# Altium schematic symbol library ISSI SRAM ASynchronous SRAM High Speed Low Power.SchLib: 413 symbols (part 19 of 21)
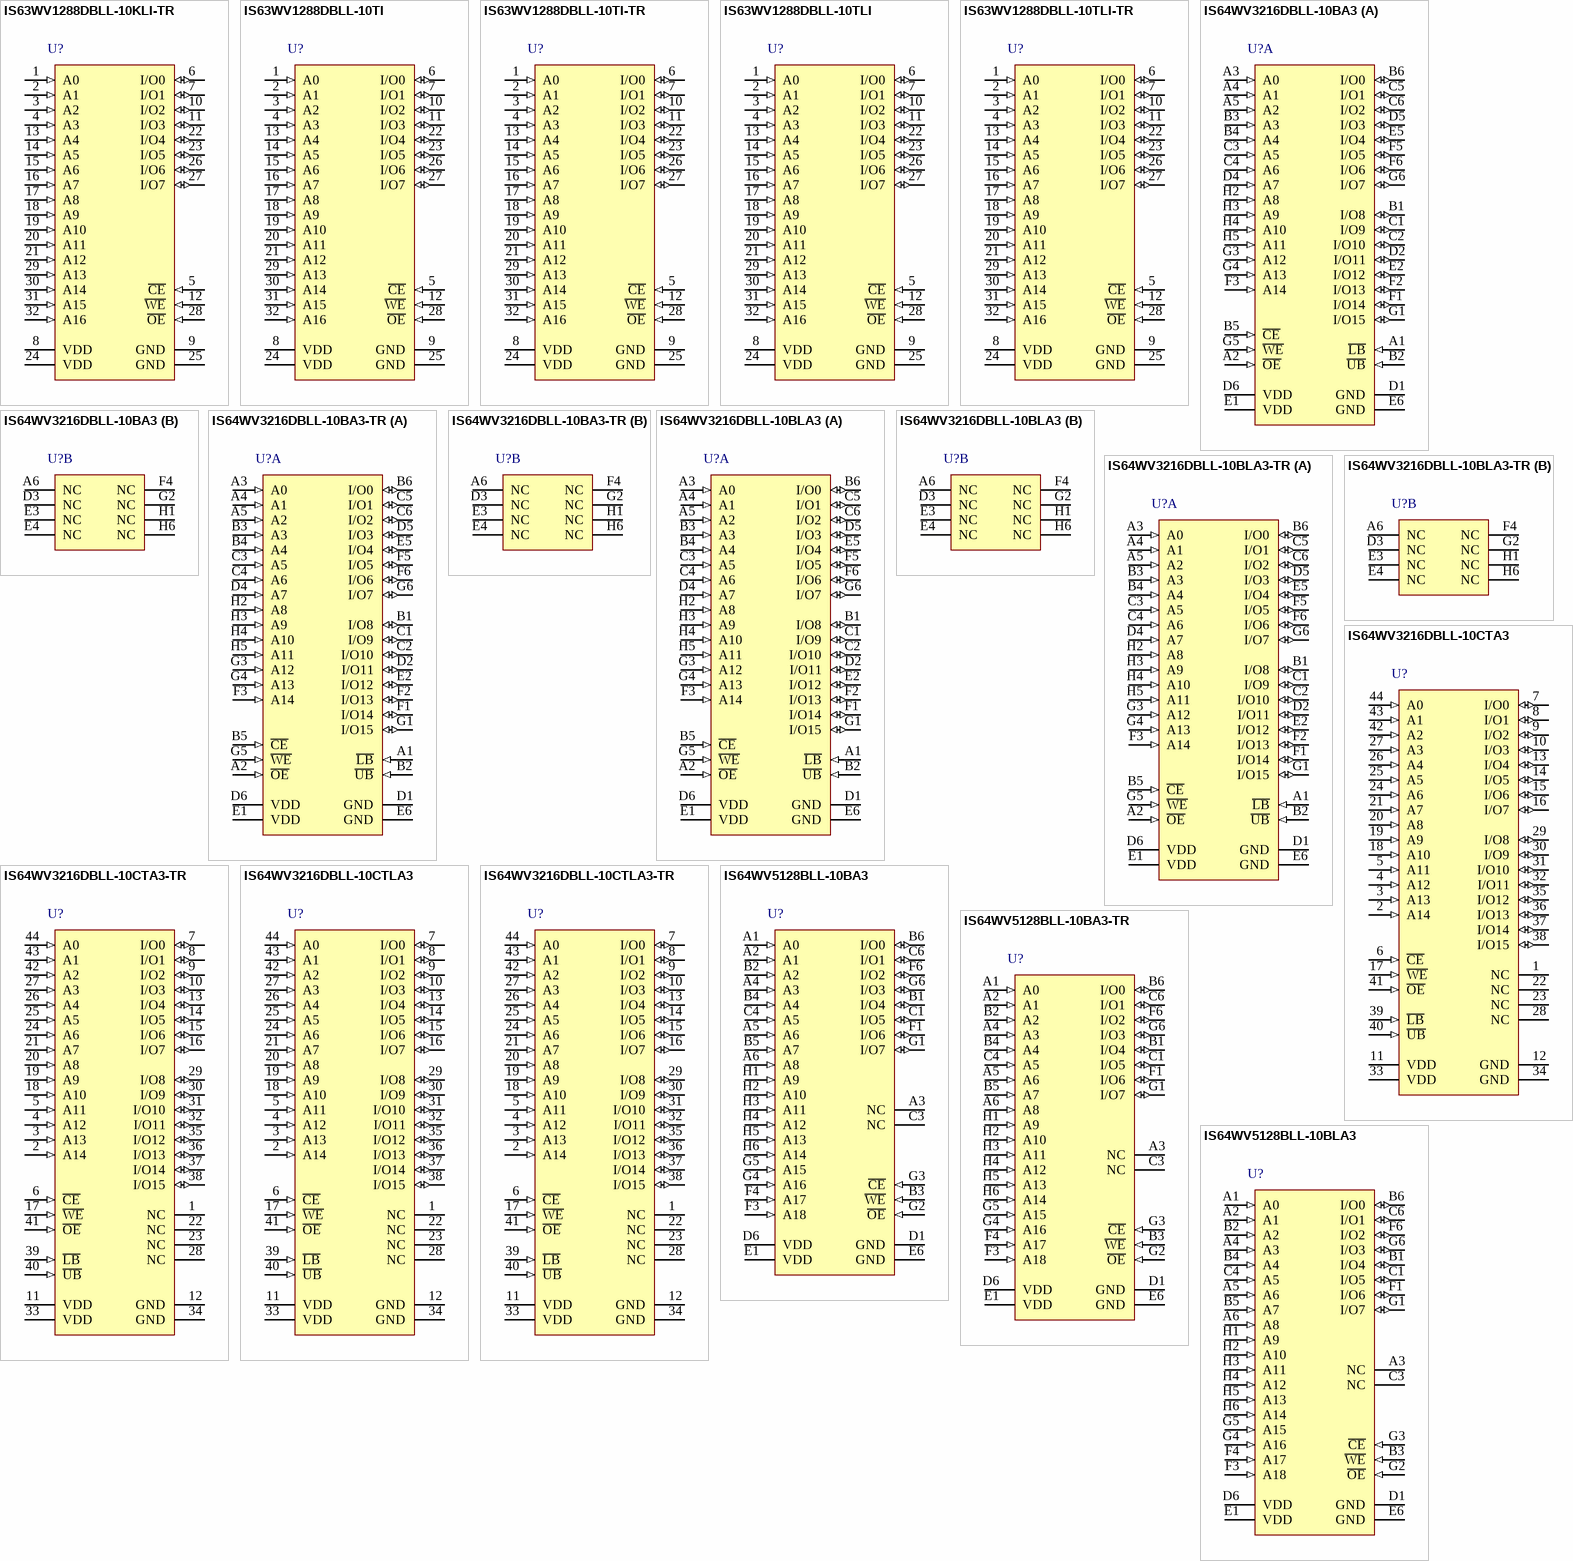
[diagram p46: symbols IS63WV1288DBLL-10KLI-TR to IS64WV5128BLL-10BLA3]

## IS64WV3216DBLL-10BA3-TR
designator U?
512 K High Speed Asynchronous CMOS SRAM, 32 K x 16, -40 to 125 degC, 48-Pin BGA (TF-BGA-48); Manufacturer: Integrated Silicon Solution Inc (ISSI); PartNumber: IS64WV3216DBLL-10BA3-TR; Density: 512K; Organization: 32K x 16; Packing: Tape & Reel; Speed (ns): 10; DatasheetVersion: Rev. A; PackageVersion: Rev. C, 08/2008; PackageReference: TF-BGA-48; PackageDescription: 48-Pin 6 x 8 mm TF-BGA, Pitch 0.75 mm; Mounting Technology: Surface Mount; Code_JEDEC: MO-207; ComponentLink1Description: Manufacturer URL; ComponentLink1URL: http://www.issi.com/US/index.shtml; ComponentLink2Description: Datasheet; ComponentLink2URL: http://www.issi.com/WW/pdf/61-64WV3216DAxx-DBxx.pdf; ComponentLink3Description: Package Specification; ComponentLink3URL: http://www.issi.com/WW/pdf/61-64WV25616.pdf
footprint ISSI-TF-BGA-48-6000X8000DE (BGA, 48-Balls, Body 8x6mm, Pitch 0.75mm)
part A pins: A1 ~{LB} (in) "Lower-byte Control(I/O0-I/O7)", A2 ~{OE} (in) "Output Enable Input", A3 A0 (in) "Address Input", A4 A1 (in) "Address Input", A5 A2 (in) "Address Input", B1 I/O8 (io) "Data Input/Output", B2 ~{UB} (in) "Upper-byte Control(I/O8-I/O15)", B3 A3 (in) "Address Input", B4 A4 (in) "Address Input", B5 ~{CE} (in) "Chip Enable Input", B6 I/O0 (io) "Data Input/Output", C1 I/O9 (io) "Data Input/Output", C2 I/O10 (io) "Data Input/Output", C3 A5 (in) "Address Input", C4 A6 (in) "Address Input", C5 I/O1 (io) "Data Input/Output", C6 I/O2 (io) "Data Input/Output", D1 GND (power) "Ground", D2 I/O11 (io) "Data Input/Output", D4 A7 (in) "Address Input", D5 I/O3 (io) "Data Input/Output", D6 VDD (power) "Power", E1 VDD (power) "Power", E2 I/O12 (io) "Data Input/Output", E5 I/O4 (io) "Data Input/Output", E6 GND (power) "Ground", F1 I/O14 (io) "Data Input/Output", F2 I/O13 (io) "Data Input/Output", F3 A14 (in) "Address Input", F5 I/O5 (io) "Data Input/Output", F6 I/O6 (io) "Data Input/Output", G1 I/O15 (io) "Data Input/Output", G3 A12 (in) "Address Input", G4 A13 (in) "Address Input", G5 ~{WE} (in) "Write Enable Input", G6 I/O7 (io) "Data Input/Output", H2 A8 (in) "Address Input", H3 A9 (in) "Address Input", H4 A10 (in) "Address Input", H5 A11 (in) "Address Input"
part B pins: A6 NC "No Connection", D3 NC "No Connection", E3 NC "No Connection", E4 NC "No Connection", F4 NC "No Connection", G2 NC "No Connection", H1 NC "No Connection", H6 NC "No Connection"

## IS64WV3216DBLL-10BLA3
designator U?
512 K High Speed Asynchronous CMOS SRAM, 32 K x 16, -40 to 125 degC, 48-Pin BGA (TF-BGA-48), Pb-Free; Manufacturer: Integrated Silicon Solution Inc (ISSI); PartNumber: IS64WV3216DBLL-10BLA3; Density: 512K; Organization: 32K x 16; Packing: Tray / Tube; Speed (ns): 10; DatasheetVersion: Rev. A; PackageVersion: Rev. C, 08/2008; PackageReference: TF-BGA-48; PackageDescription: 48-Pin 6 x 8 mm TF-BGA, Pitch 0.75 mm; RoHS: Pb-Free; Mounting Technology: Surface Mount; Code_JEDEC: MO-207; ComponentLink1Description: Manufacturer URL; ComponentLink1URL: http://www.issi.com/US/index.shtml; ComponentLink2Description: Datasheet; ComponentLink2URL: http://www.issi.com/WW/pdf/61-64WV3216DAxx-DBxx.pdf; ComponentLink3Description: Package Specification; ComponentLink3URL: http://www.issi.com/WW/pdf/61-64WV25616.pdf
footprint ISSI-TF-BGA-48-6000X8000DE (BGA, 48-Balls, Body 8x6mm, Pitch 0.75mm)
part A pins: A1 ~{LB} (in) "Lower-byte Control(I/O0-I/O7)", A2 ~{OE} (in) "Output Enable Input", A3 A0 (in) "Address Input", A4 A1 (in) "Address Input", A5 A2 (in) "Address Input", B1 I/O8 (io) "Data Input/Output", B2 ~{UB} (in) "Upper-byte Control(I/O8-I/O15)", B3 A3 (in) "Address Input", B4 A4 (in) "Address Input", B5 ~{CE} (in) "Chip Enable Input", B6 I/O0 (io) "Data Input/Output", C1 I/O9 (io) "Data Input/Output", C2 I/O10 (io) "Data Input/Output", C3 A5 (in) "Address Input", C4 A6 (in) "Address Input", C5 I/O1 (io) "Data Input/Output", C6 I/O2 (io) "Data Input/Output", D1 GND (power) "Ground", D2 I/O11 (io) "Data Input/Output", D4 A7 (in) "Address Input", D5 I/O3 (io) "Data Input/Output", D6 VDD (power) "Power", E1 VDD (power) "Power", E2 I/O12 (io) "Data Input/Output", E5 I/O4 (io) "Data Input/Output", E6 GND (power) "Ground", F1 I/O14 (io) "Data Input/Output", F2 I/O13 (io) "Data Input/Output", F3 A14 (in) "Address Input", F5 I/O5 (io) "Data Input/Output", F6 I/O6 (io) "Data Input/Output", G1 I/O15 (io) "Data Input/Output", G3 A12 (in) "Address Input", G4 A13 (in) "Address Input", G5 ~{WE} (in) "Write Enable Input", G6 I/O7 (io) "Data Input/Output", H2 A8 (in) "Address Input", H3 A9 (in) "Address Input", H4 A10 (in) "Address Input", H5 A11 (in) "Address Input"
part B pins: A6 NC "No Connection", D3 NC "No Connection", E3 NC "No Connection", E4 NC "No Connection", F4 NC "No Connection", G2 NC "No Connection", H1 NC "No Connection", H6 NC "No Connection"

## IS64WV3216DBLL-10BLA3-TR
designator U?
512 K High Speed Asynchronous CMOS SRAM, 32 K x 16, -40 to 125 degC, 48-Pin BGA (TF-BGA-48), Pb-Free; Manufacturer: Integrated Silicon Solution Inc (ISSI); PartNumber: IS64WV3216DBLL-10BLA3-TR; Density: 512K; Organization: 32K x 16; Packing: Tape & Reel; Speed (ns): 10; DatasheetVersion: Rev. A; PackageVersion: Rev. C, 08/2008; PackageReference: TF-BGA-48; PackageDescription: 48-Pin 6 x 8 mm TF-BGA, Pitch 0.75 mm; RoHS: Pb-Free; Mounting Technology: Surface Mount; Code_JEDEC: MO-207; ComponentLink1Description: Manufacturer URL; ComponentLink1URL: http://www.issi.com/US/index.shtml; ComponentLink2Description: Datasheet; ComponentLink2URL: http://www.issi.com/WW/pdf/61-64WV3216DAxx-DBxx.pdf; ComponentLink3Description: Package Specification; ComponentLink3URL: http://www.issi.com/WW/pdf/61-64WV25616.pdf
footprint ISSI-TF-BGA-48-6000X8000DE (BGA, 48-Balls, Body 8x6mm, Pitch 0.75mm)
part A pins: A1 ~{LB} (in) "Lower-byte Control(I/O0-I/O7)", A2 ~{OE} (in) "Output Enable Input", A3 A0 (in) "Address Input", A4 A1 (in) "Address Input", A5 A2 (in) "Address Input", B1 I/O8 (io) "Data Input/Output", B2 ~{UB} (in) "Upper-byte Control(I/O8-I/O15)", B3 A3 (in) "Address Input", B4 A4 (in) "Address Input", B5 ~{CE} (in) "Chip Enable Input", B6 I/O0 (io) "Data Input/Output", C1 I/O9 (io) "Data Input/Output", C2 I/O10 (io) "Data Input/Output", C3 A5 (in) "Address Input", C4 A6 (in) "Address Input", C5 I/O1 (io) "Data Input/Output", C6 I/O2 (io) "Data Input/Output", D1 GND (power) "Ground", D2 I/O11 (io) "Data Input/Output", D4 A7 (in) "Address Input", D5 I/O3 (io) "Data Input/Output", D6 VDD (power) "Power", E1 VDD (power) "Power", E2 I/O12 (io) "Data Input/Output", E5 I/O4 (io) "Data Input/Output", E6 GND (power) "Ground", F1 I/O14 (io) "Data Input/Output", F2 I/O13 (io) "Data Input/Output", F3 A14 (in) "Address Input", F5 I/O5 (io) "Data Input/Output", F6 I/O6 (io) "Data Input/Output", G1 I/O15 (io) "Data Input/Output", G3 A12 (in) "Address Input", G4 A13 (in) "Address Input", G5 ~{WE} (in) "Write Enable Input", G6 I/O7 (io) "Data Input/Output", H2 A8 (in) "Address Input", H3 A9 (in) "Address Input", H4 A10 (in) "Address Input", H5 A11 (in) "Address Input"
part B pins: A6 NC "No Connection", D3 NC "No Connection", E3 NC "No Connection", E4 NC "No Connection", F4 NC "No Connection", G2 NC "No Connection", H1 NC "No Connection", H6 NC "No Connection"

## IS64WV3216DBLL-10CTA3
designator U?
512 K High Speed Asynchronous CMOS SRAM, 32 K x 16, -40 to 125 degC, 44-Pin SOP (TSOP-2-44); Manufacturer: Integrated Silicon Solution Inc (ISSI); PartNumber: IS64WV3216DBLL-10CTA3; Density: 512K; Organization: 32K x 16; Packing: Tray / Tube; Speed (ns): 10; DatasheetVersion: Rev. A; PackageVersion: Rev. F, 06/2008; PackageReference: TSOP-2-44; PackageDescription: 44-Pin 400 mil TSOP-2, Body 18.41 x 10.16 mm, Pitch 0.8 mm; Mounting Technology: Surface Mount; ComponentLink1Description: Manufacturer URL; ComponentLink1URL: http://www.issi.com/US/index.shtml; ComponentLink2Description: Datasheet; ComponentLink2URL: http://www.issi.com/WW/pdf/61-64WV3216DAxx-DBxx.pdf; ComponentLink3Description: Package Specification; ComponentLink3URL: http://www.issi.com/WW/pdf/61-64WV6416EEBLL.pdf
footprint ISSI-TSOP-2-44_N (SOP, 44-Leads, Body 18.5x10.3mm, Pitch 0.8mm, IPC Medium Density)
pins: 1 NC "No Connection", 2 A14 (in) "Address Input", 3 A13 (in) "Address Input", 4 A12 (in) "Address Input", 5 A11 (in) "Address Input", 6 ~{CE} (in) "Chip Enable Input", 7 I/O0 (io) "Data Input/Output", 8 I/O1 (io) "Data Input/Output", 9 I/O2 (io) "Data Input/Output", 10 I/O3 (io) "Data Input/Output", 11 VDD (power) "Power", 12 GND (power) "Ground", 13 I/O4 (io) "Data Input/Output", 14 I/O5 (io) "Data Input/Output", 15 I/O6 (io) "Data Input/Output", 16 I/O7 (io) "Data Input/Output", 17 ~{WE} (in) "Write Enable Input", 18 A10 (in) "Address Input", 19 A9 (in) "Address Input", 20 A8 (in) "Address Input", 21 A7 (in) "Address Input", 22 NC "No Connection", 23 NC "No Connection", 24 A6 (in) "Address Input", 25 A5 (in) "Address Input", 26 A4 (in) "Address Input", 27 A3 (in) "Address Input", 28 NC "No Connection", 29 I/O8 (io) "Data Input/Output", 30 I/O9 (io) "Data Input/Output", 31 I/O10 (io) "Data Input/Output", 32 I/O11 (io) "Data Input/Output", 33 VDD (power) "Power", 34 GND (power) "Ground", 35 I/O12 (io) "Data Input/Output", 36 I/O13 (io) "Data Input/Output", 37 I/O14 (io) "Data Input/Output", 38 I/O15 (io) "Data Input/Output", 39 ~{LB} (in) "Lower-byte Control (I/O0-I/O7)", 40 ~{UB} (in) "Upper-byte Control (I/O8-I/O15)", 41 ~{OE} (in) "Output Enable Input", 42 A2 (in) "Address Input", 43 A1 (in) "Address Input", 44 A0 (in) "Address Input"

## IS64WV3216DBLL-10CTA3-TR
designator U?
512 K High Speed Asynchronous CMOS SRAM, 32 K x 16, -40 to 125 degC, 44-Pin SOP (TSOP-2-44); Manufacturer: Integrated Silicon Solution Inc (ISSI); PartNumber: IS64WV3216DBLL-10CTA3-TR; Density: 512K; Organization: 32K x 16; Packing: Tape & Reel; Speed (ns): 10; DatasheetVersion: Rev. A; PackageVersion: Rev. F, 06/2008; PackageReference: TSOP-2-44; PackageDescription: 44-Pin 400 mil TSOP-2, Body 18.41 x 10.16 mm, Pitch 0.8 mm; Mounting Technology: Surface Mount; ComponentLink1Description: Manufacturer URL; ComponentLink1URL: http://www.issi.com/US/index.shtml; ComponentLink2Description: Datasheet; ComponentLink2URL: http://www.issi.com/WW/pdf/61-64WV3216DAxx-DBxx.pdf; ComponentLink3Description: Package Specification; ComponentLink3URL: http://www.issi.com/WW/pdf/61-64WV6416EEBLL.pdf
footprint ISSI-TSOP-2-44_N (SOP, 44-Leads, Body 18.5x10.3mm, Pitch 0.8mm, IPC Medium Density)
pins: 1 NC "No Connection", 2 A14 (in) "Address Input", 3 A13 (in) "Address Input", 4 A12 (in) "Address Input", 5 A11 (in) "Address Input", 6 ~{CE} (in) "Chip Enable Input", 7 I/O0 (io) "Data Input/Output", 8 I/O1 (io) "Data Input/Output", 9 I/O2 (io) "Data Input/Output", 10 I/O3 (io) "Data Input/Output", 11 VDD (power) "Power", 12 GND (power) "Ground", 13 I/O4 (io) "Data Input/Output", 14 I/O5 (io) "Data Input/Output", 15 I/O6 (io) "Data Input/Output", 16 I/O7 (io) "Data Input/Output", 17 ~{WE} (in) "Write Enable Input", 18 A10 (in) "Address Input", 19 A9 (in) "Address Input", 20 A8 (in) "Address Input", 21 A7 (in) "Address Input", 22 NC "No Connection", 23 NC "No Connection", 24 A6 (in) "Address Input", 25 A5 (in) "Address Input", 26 A4 (in) "Address Input", 27 A3 (in) "Address Input", 28 NC "No Connection", 29 I/O8 (io) "Data Input/Output", 30 I/O9 (io) "Data Input/Output", 31 I/O10 (io) "Data Input/Output", 32 I/O11 (io) "Data Input/Output", 33 VDD (power) "Power", 34 GND (power) "Ground", 35 I/O12 (io) "Data Input/Output", 36 I/O13 (io) "Data Input/Output", 37 I/O14 (io) "Data Input/Output", 38 I/O15 (io) "Data Input/Output", 39 ~{LB} (in) "Lower-byte Control (I/O0-I/O7)", 40 ~{UB} (in) "Upper-byte Control (I/O8-I/O15)", 41 ~{OE} (in) "Output Enable Input", 42 A2 (in) "Address Input", 43 A1 (in) "Address Input", 44 A0 (in) "Address Input"

## IS64WV3216DBLL-10CTLA3
designator U?
512 K High Speed Asynchronous CMOS SRAM, 32 K x 16, -40 to 125 degC, 44-Pin SOP (TSOP-2-44), Pb-Free; Manufacturer: Integrated Silicon Solution Inc (ISSI); PartNumber: IS64WV3216DBLL-10CTLA3; Density: 512K; Organization: 32K x 16; Packing: Tray / Tube; Speed (ns): 10; DatasheetVersion: Rev. A; PackageVersion: Rev. F, 06/2008; PackageReference: TSOP-2-44; PackageDescription: 44-Pin 400 mil TSOP-2, Body 18.41 x 10.16 mm, Pitch 0.8 mm; RoHS: Pb-Free; Mounting Technology: Surface Mount; ComponentLink1Description: Manufacturer URL; ComponentLink1URL: http://www.issi.com/US/index.shtml; ComponentLink2Description: Datasheet; ComponentLink2URL: http://www.issi.com/WW/pdf/61-64WV3216DAxx-DBxx.pdf; ComponentLink3Description: Package Specification; ComponentLink3URL: http://www.issi.com/WW/pdf/61-64WV6416EEBLL.pdf
footprint ISSI-TSOP-2-44_N (SOP, 44-Leads, Body 18.5x10.3mm, Pitch 0.8mm, IPC Medium Density)
pins: 1 NC "No Connection", 2 A14 (in) "Address Input", 3 A13 (in) "Address Input", 4 A12 (in) "Address Input", 5 A11 (in) "Address Input", 6 ~{CE} (in) "Chip Enable Input", 7 I/O0 (io) "Data Input/Output", 8 I/O1 (io) "Data Input/Output", 9 I/O2 (io) "Data Input/Output", 10 I/O3 (io) "Data Input/Output", 11 VDD (power) "Power", 12 GND (power) "Ground", 13 I/O4 (io) "Data Input/Output", 14 I/O5 (io) "Data Input/Output", 15 I/O6 (io) "Data Input/Output", 16 I/O7 (io) "Data Input/Output", 17 ~{WE} (in) "Write Enable Input", 18 A10 (in) "Address Input", 19 A9 (in) "Address Input", 20 A8 (in) "Address Input", 21 A7 (in) "Address Input", 22 NC "No Connection", 23 NC "No Connection", 24 A6 (in) "Address Input", 25 A5 (in) "Address Input", 26 A4 (in) "Address Input", 27 A3 (in) "Address Input", 28 NC "No Connection", 29 I/O8 (io) "Data Input/Output", 30 I/O9 (io) "Data Input/Output", 31 I/O10 (io) "Data Input/Output", 32 I/O11 (io) "Data Input/Output", 33 VDD (power) "Power", 34 GND (power) "Ground", 35 I/O12 (io) "Data Input/Output", 36 I/O13 (io) "Data Input/Output", 37 I/O14 (io) "Data Input/Output", 38 I/O15 (io) "Data Input/Output", 39 ~{LB} (in) "Lower-byte Control (I/O0-I/O7)", 40 ~{UB} (in) "Upper-byte Control (I/O8-I/O15)", 41 ~{OE} (in) "Output Enable Input", 42 A2 (in) "Address Input", 43 A1 (in) "Address Input", 44 A0 (in) "Address Input"

## IS64WV3216DBLL-10CTLA3-TR
designator U?
512 K High Speed Asynchronous CMOS SRAM, 32 K x 16, -40 to 125 degC, 44-Pin SOP (TSOP-2-44), Pb-Free; Manufacturer: Integrated Silicon Solution Inc (ISSI); PartNumber: IS64WV3216DBLL-10CTLA3-TR; Density: 512K; Organization: 32K x 16; Packing: Tape & Reel; Speed (ns): 10; DatasheetVersion: Rev. A; PackageVersion: Rev. F, 06/2008; PackageReference: TSOP-2-44; PackageDescription: 44-Pin 400 mil TSOP-2, Body 18.41 x 10.16 mm, Pitch 0.8 mm; RoHS: Pb-Free; Mounting Technology: Surface Mount; ComponentLink1Description: Manufacturer URL; ComponentLink1URL: http://www.issi.com/US/index.shtml; ComponentLink2Description: Datasheet; ComponentLink2URL: http://www.issi.com/WW/pdf/61-64WV3216DAxx-DBxx.pdf; ComponentLink3Description: Package Specification; ComponentLink3URL: http://www.issi.com/WW/pdf/61-64WV6416EEBLL.pdf
footprint ISSI-TSOP-2-44_N (SOP, 44-Leads, Body 18.5x10.3mm, Pitch 0.8mm, IPC Medium Density)
pins: 1 NC "No Connection", 2 A14 (in) "Address Input", 3 A13 (in) "Address Input", 4 A12 (in) "Address Input", 5 A11 (in) "Address Input", 6 ~{CE} (in) "Chip Enable Input", 7 I/O0 (io) "Data Input/Output", 8 I/O1 (io) "Data Input/Output", 9 I/O2 (io) "Data Input/Output", 10 I/O3 (io) "Data Input/Output", 11 VDD (power) "Power", 12 GND (power) "Ground", 13 I/O4 (io) "Data Input/Output", 14 I/O5 (io) "Data Input/Output", 15 I/O6 (io) "Data Input/Output", 16 I/O7 (io) "Data Input/Output", 17 ~{WE} (in) "Write Enable Input", 18 A10 (in) "Address Input", 19 A9 (in) "Address Input", 20 A8 (in) "Address Input", 21 A7 (in) "Address Input", 22 NC "No Connection", 23 NC "No Connection", 24 A6 (in) "Address Input", 25 A5 (in) "Address Input", 26 A4 (in) "Address Input", 27 A3 (in) "Address Input", 28 NC "No Connection", 29 I/O8 (io) "Data Input/Output", 30 I/O9 (io) "Data Input/Output", 31 I/O10 (io) "Data Input/Output", 32 I/O11 (io) "Data Input/Output", 33 VDD (power) "Power", 34 GND (power) "Ground", 35 I/O12 (io) "Data Input/Output", 36 I/O13 (io) "Data Input/Output", 37 I/O14 (io) "Data Input/Output", 38 I/O15 (io) "Data Input/Output", 39 ~{LB} (in) "Lower-byte Control (I/O0-I/O7)", 40 ~{UB} (in) "Upper-byte Control (I/O8-I/O15)", 41 ~{OE} (in) "Output Enable Input", 42 A2 (in) "Address Input", 43 A1 (in) "Address Input", 44 A0 (in) "Address Input"

## IS64WV5128BLL-10BA3
designator U?
4 M High Speed Asynchronous CMOS SRAM, 512 K x 8, -40 to 125 degC, 36-Pin BGA (TF-BGA-36); Manufacturer: Integrated Silicon Solution Inc (ISSI); PartNumber: IS64WV5128BLL-10BA3; Density: 4M; Organization: 512K x 8; Packing: Tray / Tube; Speed (ns): 10; DatasheetVersion: Rev. I; PackageVersion: Rev. E, 08/2008; PackageReference: TF-BGA-36; PackageDescription: 36-Pin 6 x 8 mm TF-BGA, Pitch 0.75 mm; Mounting Technology: Surface Mount; Code_JEDEC: MO-207; ComponentLink1Description: Manufacturer URL; ComponentLink1URL: http://www.issi.com/US/index.shtml; ComponentLink2Description: Datasheet; ComponentLink2URL: http://www.issi.com/WW/pdf/61-64WV5128Axx-Bxx.pdf; ComponentLink3Description: Package Specification; ComponentLink3URL: http://www.issi.com/WW/pdf/62-65WV2568DALL_BLL.pdf
footprint ISSI-TF-BGA-36-6000x8000DE (BGA, 36-Balls, Body 8x6mm, Pitch 0.75mm)
pins: A1 A0 (in) "Address Input", A2 A1 (in) "Address Input", A3 NC "No Connection", A4 A3 (in) "Address Input", A5 A6 (in) "Address Input", A6 A8 (in) "Address Input", B1 I/O4 (io) "Bidirectional Port", B2 A2 (in) "Address Input", B3 ~{WE} (in) "Write Enable Input", B4 A4 (in) "Address Input", B5 A7 (in) "Address Input", B6 I/O0 (io) "Bidirectional Port", C1 I/O5 (io) "Bidirectional Port", C3 NC "No Connection", C4 A5 (in) "Address Input", C6 I/O1 (io) "Bidirectional Port", D1 GND (power) "Ground", D6 VDD (power) "Power", E1 VDD (power) "Power", E6 GND (power) "Ground", F1 I/O6 (io) "Bidirectional Port", F3 A18 (in) "Address Input", F4 A17 (in) "Address Input", F6 I/O2 (io) "Bidirectional Port", G1 I/O7 (io) "Bidirectional Port", G2 ~{OE} (in) "Output Enable Input", G3 ~{CE} (in) "Chip Enable Input", G4 A16 (in) "Address Input", G5 A15 (in) "Address Input", G6 I/O3 (io) "Bidirectional Port", H1 A9 (in) "Address Input", H2 A10 (in) "Address Input", H3 A11 (in) "Address Input", H4 A12 (in) "Address Input", H5 A13 (in) "Address Input", H6 A14 (in) "Address Input"

## IS64WV5128BLL-10BA3-TR
designator U?
4 M High Speed Asynchronous CMOS SRAM, 512 K x 8, -40 to 125 degC, 36-Pin BGA (TF-BGA-36); Manufacturer: Integrated Silicon Solution Inc (ISSI); PartNumber: IS64WV5128BLL-10BA3-TR; Density: 4M; Organization: 512K x 8; Packing: Tape & Reel; Speed (ns): 10; DatasheetVersion: Rev. I; PackageVersion: Rev. E, 08/2008; PackageReference: TF-BGA-36; PackageDescription: 36-Pin 6 x 8 mm TF-BGA, Pitch 0.75 mm; Mounting Technology: Surface Mount; Code_JEDEC: MO-207; ComponentLink1Description: Manufacturer URL; ComponentLink1URL: http://www.issi.com/US/index.shtml; ComponentLink2Description: Datasheet; ComponentLink2URL: http://www.issi.com/WW/pdf/61-64WV5128Axx-Bxx.pdf; ComponentLink3Description: Package Specification; ComponentLink3URL: http://www.issi.com/WW/pdf/62-65WV2568DALL_BLL.pdf
footprint ISSI-TF-BGA-36-6000x8000DE (BGA, 36-Balls, Body 8x6mm, Pitch 0.75mm)
pins: A1 A0 (in) "Address Input", A2 A1 (in) "Address Input", A3 NC "No Connection", A4 A3 (in) "Address Input", A5 A6 (in) "Address Input", A6 A8 (in) "Address Input", B1 I/O4 (io) "Bidirectional Port", B2 A2 (in) "Address Input", B3 ~{WE} (in) "Write Enable Input", B4 A4 (in) "Address Input", B5 A7 (in) "Address Input", B6 I/O0 (io) "Bidirectional Port", C1 I/O5 (io) "Bidirectional Port", C3 NC "No Connection", C4 A5 (in) "Address Input", C6 I/O1 (io) "Bidirectional Port", D1 GND (power) "Ground", D6 VDD (power) "Power", E1 VDD (power) "Power", E6 GND (power) "Ground", F1 I/O6 (io) "Bidirectional Port", F3 A18 (in) "Address Input", F4 A17 (in) "Address Input", F6 I/O2 (io) "Bidirectional Port", G1 I/O7 (io) "Bidirectional Port", G2 ~{OE} (in) "Output Enable Input", G3 ~{CE} (in) "Chip Enable Input", G4 A16 (in) "Address Input", G5 A15 (in) "Address Input", G6 I/O3 (io) "Bidirectional Port", H1 A9 (in) "Address Input", H2 A10 (in) "Address Input", H3 A11 (in) "Address Input", H4 A12 (in) "Address Input", H5 A13 (in) "Address Input", H6 A14 (in) "Address Input"

## IS64WV5128BLL-10BLA3
designator U?
4 M High Speed Asynchronous CMOS SRAM, 512 K x 8, -40 to 125 degC, 36-Pin BGA (TF-BGA-36), Pb-Free; Manufacturer: Integrated Silicon Solution Inc (ISSI); PartNumber: IS64WV5128BLL-10BLA3; Density: 4M; Organization: 512K x 8; Packing: Tray / Tube; Speed (ns): 10; DatasheetVersion: Rev. I; PackageVersion: Rev. E, 08/2008; PackageReference: TF-BGA-36; PackageDescription: 36-Pin 6 x 8 mm TF-BGA, Pitch 0.75 mm; RoHS: Pb-Free; Mounting Technology: Surface Mount; Code_JEDEC: MO-207; ComponentLink1Description: Manufacturer URL; ComponentLink1URL: http://www.issi.com/US/index.shtml; ComponentLink2Description: Datasheet; ComponentLink2URL: http://www.issi.com/WW/pdf/61-64WV5128Axx-Bxx.pdf; ComponentLink3Description: Package Specification; ComponentLink3URL: http://www.issi.com/WW/pdf/62-65WV2568DALL_BLL.pdf
footprint ISSI-TF-BGA-36-6000x8000DE (BGA, 36-Balls, Body 8x6mm, Pitch 0.75mm)
pins: A1 A0 (in) "Address Input", A2 A1 (in) "Address Input", A3 NC "No Connection", A4 A3 (in) "Address Input", A5 A6 (in) "Address Input", A6 A8 (in) "Address Input", B1 I/O4 (io) "Bidirectional Port", B2 A2 (in) "Address Input", B3 ~{WE} (in) "Write Enable Input", B4 A4 (in) "Address Input", B5 A7 (in) "Address Input", B6 I/O0 (io) "Bidirectional Port", C1 I/O5 (io) "Bidirectional Port", C3 NC "No Connection", C4 A5 (in) "Address Input", C6 I/O1 (io) "Bidirectional Port", D1 GND (power) "Ground", D6 VDD (power) "Power", E1 VDD (power) "Power", E6 GND (power) "Ground", F1 I/O6 (io) "Bidirectional Port", F3 A18 (in) "Address Input", F4 A17 (in) "Address Input", F6 I/O2 (io) "Bidirectional Port", G1 I/O7 (io) "Bidirectional Port", G2 ~{OE} (in) "Output Enable Input", G3 ~{CE} (in) "Chip Enable Input", G4 A16 (in) "Address Input", G5 A15 (in) "Address Input", G6 I/O3 (io) "Bidirectional Port", H1 A9 (in) "Address Input", H2 A10 (in) "Address Input", H3 A11 (in) "Address Input", H4 A12 (in) "Address Input", H5 A13 (in) "Address Input", H6 A14 (in) "Address Input"

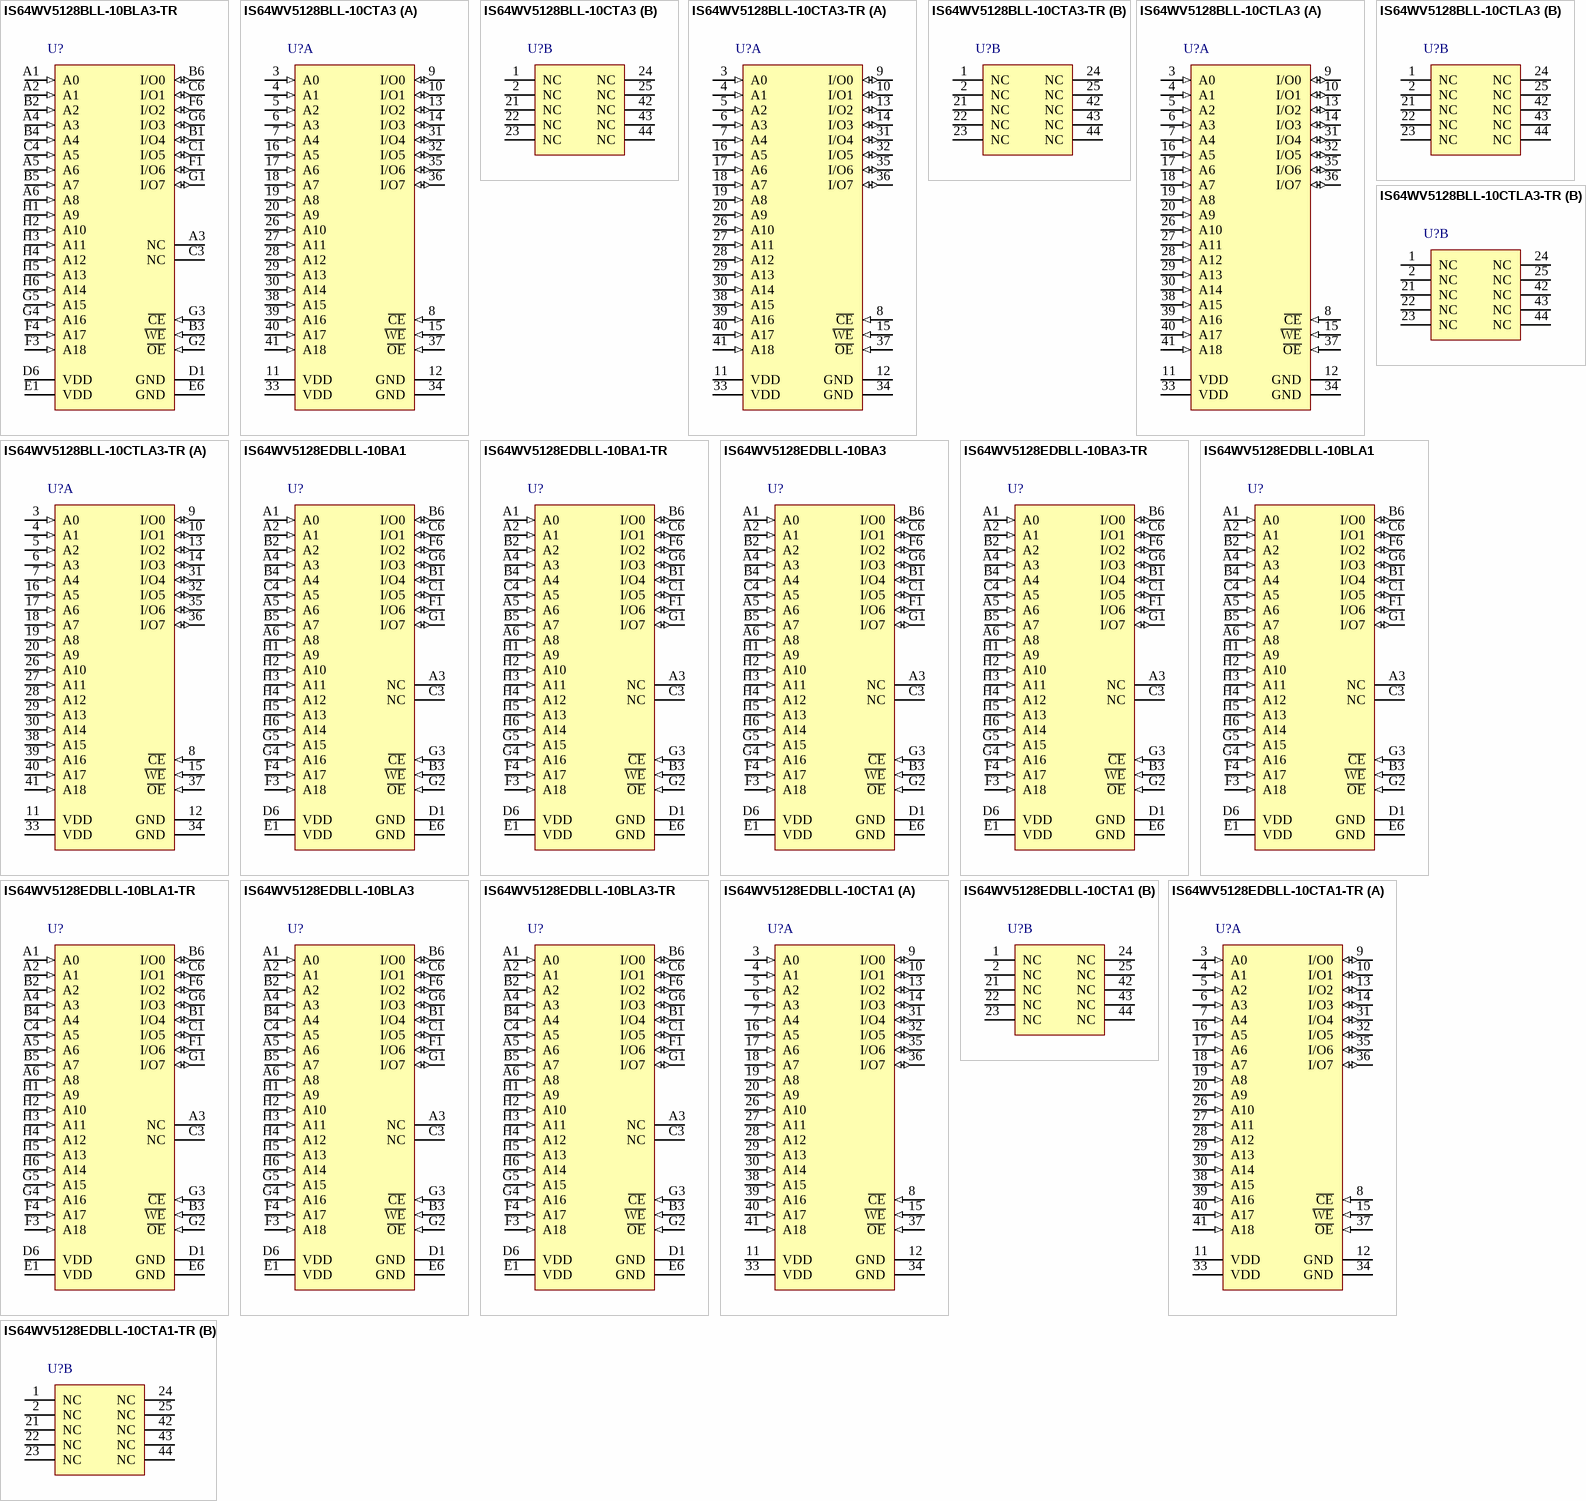
[diagram p26: symbols IS64WV5128BLL-10BLA3-TR to IS64WV5128EDBLL-10CTA1-TR]

## IS64WV5128BLL-10BLA3-TR
designator U?
4 M High Speed Asynchronous CMOS SRAM, 512 K x 8, -40 to 125 degC, 36-Pin BGA (TF-BGA-36), Pb-Free; Manufacturer: Integrated Silicon Solution Inc (ISSI); PartNumber: IS64WV5128BLL-10BLA3-TR; Density: 4M; Organization: 512K x 8; Packing: Tape & Reel; Speed (ns): 10; DatasheetVersion: Rev. I; PackageVersion: Rev. E, 08/2008; PackageReference: TF-BGA-36; PackageDescription: 36-Pin 6 x 8 mm TF-BGA, Pitch 0.75 mm; RoHS: Pb-Free; Mounting Technology: Surface Mount; Code_JEDEC: MO-207; ComponentLink1Description: Manufacturer URL; ComponentLink1URL: http://www.issi.com/US/index.shtml; ComponentLink2Description: Datasheet; ComponentLink2URL: http://www.issi.com/WW/pdf/61-64WV5128Axx-Bxx.pdf; ComponentLink3Description: Package Specification; ComponentLink3URL: http://www.issi.com/WW/pdf/62-65WV2568DALL_BLL.pdf
footprint ISSI-TF-BGA-36-6000x8000DE (BGA, 36-Balls, Body 8x6mm, Pitch 0.75mm)
pins: A1 A0 (in) "Address Input", A2 A1 (in) "Address Input", A3 NC "No Connection", A4 A3 (in) "Address Input", A5 A6 (in) "Address Input", A6 A8 (in) "Address Input", B1 I/O4 (io) "Bidirectional Port", B2 A2 (in) "Address Input", B3 ~{WE} (in) "Write Enable Input", B4 A4 (in) "Address Input", B5 A7 (in) "Address Input", B6 I/O0 (io) "Bidirectional Port", C1 I/O5 (io) "Bidirectional Port", C3 NC "No Connection", C4 A5 (in) "Address Input", C6 I/O1 (io) "Bidirectional Port", D1 GND (power) "Ground", D6 VDD (power) "Power", E1 VDD (power) "Power", E6 GND (power) "Ground", F1 I/O6 (io) "Bidirectional Port", F3 A18 (in) "Address Input", F4 A17 (in) "Address Input", F6 I/O2 (io) "Bidirectional Port", G1 I/O7 (io) "Bidirectional Port", G2 ~{OE} (in) "Output Enable Input", G3 ~{CE} (in) "Chip Enable Input", G4 A16 (in) "Address Input", G5 A15 (in) "Address Input", G6 I/O3 (io) "Bidirectional Port", H1 A9 (in) "Address Input", H2 A10 (in) "Address Input", H3 A11 (in) "Address Input", H4 A12 (in) "Address Input", H5 A13 (in) "Address Input", H6 A14 (in) "Address Input"

## IS64WV5128BLL-10CTA3
designator U?
4 M High Speed Asynchronous CMOS SRAM, 512 K x 8, -40 to 125 degC, 44-Pin SOP (TSOP-2-44); Manufacturer: Integrated Silicon Solution Inc (ISSI); PartNumber: IS64WV5128BLL-10CTA3; Density: 4M; Organization: 512K x 8; Packing: Tray / Tube; Speed (ns): 10; DatasheetVersion: Rev. I; PackageVersion: Rev. F, 06/2008; PackageReference: TSOP-2-44; PackageDescription: 44-Pin 400 mil TSOP-2, Body 18.41 x 10.16 mm, Pitch 0.8 mm; Mounting Technology: Surface Mount; ComponentLink1Description: Manufacturer URL; ComponentLink1URL: http://www.issi.com/US/index.shtml; ComponentLink2Description: Datasheet; ComponentLink2URL: http://www.issi.com/WW/pdf/61-64WV5128Axx-Bxx.pdf; ComponentLink3Description: Package Specification; ComponentLink3URL: http://www.issi.com/WW/pdf/61-64WV6416EEBLL.pdf
footprint ISSI-TSOP-2-44_N (SOP, 44-Leads, Body 18.5x10.3mm, Pitch 0.8mm, IPC Medium Density)
part A pins: 3 A0 (in) "Address Input", 4 A1 (in) "Address Input", 5 A2 (in) "Address Input", 6 A3 (in) "Address Input", 7 A4 (in) "Address Input", 8 ~{CE} (in) "Chip Enable Input", 9 I/O0 (io) "Bidirectional Port", 10 I/O1 (io) "Bidirectional Port", 11 VDD (power) "Power", 12 GND (power) "Ground", 13 I/O2 (io) "Bidirectional Port", 14 I/O3 (io) "Bidirectional Port", 15 ~{WE} (in) "Write Enable Input", 16 A5 (in) "Address Input", 17 A6 (in) "Address Input", 18 A7 (in) "Address Input", 19 A8 (in) "Address Input", 20 A9 (in) "Address Input", 26 A10 (in) "Address Input", 27 A11 (in) "Address Input", 28 A12 (in) "Address Input", 29 A13 (in) "Address Input", 30 A14 (in) "Address Input", 31 I/O4 (io) "Bidirectional Port", 32 I/O5 (io) "Bidirectional Port", 33 VDD (power) "Power", 34 GND (power) "Ground", 35 I/O6 (io) "Bidirectional Port", 36 I/O7 (io) "Bidirectional Port", 37 ~{OE} (in) "Output Enable Input", 38 A15 (in) "Address Input", 39 A16 (in) "Address Input", 40 A17 (in) "Address Input", 41 A18 (in) "Address Input"
part B pins: 1 NC "No Connection", 2 NC "No Connection", 21 NC "No Connection", 22 NC "No Connection", 23 NC "No Connection", 24 NC "No Connection", 25 NC "No Connection", 42 NC "No Connection", 43 NC "No Connection", 44 NC "No Connection"

## IS64WV5128BLL-10CTA3-TR
designator U?
4 M High Speed Asynchronous CMOS SRAM, 512 K x 8, -40 to 125 degC, 44-Pin SOP (TSOP-2-44); Manufacturer: Integrated Silicon Solution Inc (ISSI); PartNumber: IS64WV5128BLL-10CTA3-TR; Density: 4M; Organization: 512K x 8; Packing: Tape & Reel; Speed (ns): 10; DatasheetVersion: Rev. I; PackageVersion: Rev. F, 06/2008; PackageReference: TSOP-2-44; PackageDescription: 44-Pin 400 mil TSOP-2, Body 18.41 x 10.16 mm, Pitch 0.8 mm; Mounting Technology: Surface Mount; ComponentLink1Description: Manufacturer URL; ComponentLink1URL: http://www.issi.com/US/index.shtml; ComponentLink2Description: Datasheet; ComponentLink2URL: http://www.issi.com/WW/pdf/61-64WV5128Axx-Bxx.pdf; ComponentLink3Description: Package Specification; ComponentLink3URL: http://www.issi.com/WW/pdf/61-64WV6416EEBLL.pdf
footprint ISSI-TSOP-2-44_N (SOP, 44-Leads, Body 18.5x10.3mm, Pitch 0.8mm, IPC Medium Density)
part A pins: 3 A0 (in) "Address Input", 4 A1 (in) "Address Input", 5 A2 (in) "Address Input", 6 A3 (in) "Address Input", 7 A4 (in) "Address Input", 8 ~{CE} (in) "Chip Enable Input", 9 I/O0 (io) "Bidirectional Port", 10 I/O1 (io) "Bidirectional Port", 11 VDD (power) "Power", 12 GND (power) "Ground", 13 I/O2 (io) "Bidirectional Port", 14 I/O3 (io) "Bidirectional Port", 15 ~{WE} (in) "Write Enable Input", 16 A5 (in) "Address Input", 17 A6 (in) "Address Input", 18 A7 (in) "Address Input", 19 A8 (in) "Address Input", 20 A9 (in) "Address Input", 26 A10 (in) "Address Input", 27 A11 (in) "Address Input", 28 A12 (in) "Address Input", 29 A13 (in) "Address Input", 30 A14 (in) "Address Input", 31 I/O4 (io) "Bidirectional Port", 32 I/O5 (io) "Bidirectional Port", 33 VDD (power) "Power", 34 GND (power) "Ground", 35 I/O6 (io) "Bidirectional Port", 36 I/O7 (io) "Bidirectional Port", 37 ~{OE} (in) "Output Enable Input", 38 A15 (in) "Address Input", 39 A16 (in) "Address Input", 40 A17 (in) "Address Input", 41 A18 (in) "Address Input"
part B pins: 1 NC "No Connection", 2 NC "No Connection", 21 NC "No Connection", 22 NC "No Connection", 23 NC "No Connection", 24 NC "No Connection", 25 NC "No Connection", 42 NC "No Connection", 43 NC "No Connection", 44 NC "No Connection"

## IS64WV5128BLL-10CTLA3
designator U?
4 M High Speed Asynchronous CMOS SRAM, 512 K x 8, -40 to 125 degC, 44-Pin SOP (TSOP-2-44), Pb-Free; Manufacturer: Integrated Silicon Solution Inc (ISSI); PartNumber: IS64WV5128BLL-10CTLA3; Density: 4M; Organization: 512K x 8; Packing: Tray / Tube; Speed (ns): 10; DatasheetVersion: Rev. I; PackageVersion: Rev. F, 06/2008; PackageReference: TSOP-2-44; PackageDescription: 44-Pin 400 mil TSOP-2, Body 18.41 x 10.16 mm, Pitch 0.8 mm; Supplier 1: Newark; Supplier Part Number 1: 24T8367; Supplier 2: Mouser; Supplier Part Number 2: 870-64WV5128B10CTLA3; RoHS: Pb-Free; Mounting Technology: Surface Mount; ComponentLink1Description: Manufacturer URL; ComponentLink1URL: http://www.issi.com/US/index.shtml; ComponentLink2Description: Datasheet; ComponentLink2URL: http://www.issi.com/WW/pdf/61-64WV5128Axx-Bxx.pdf; ComponentLink3Description: Package Specification; ComponentLink3URL: http://www.issi.com/WW/pdf/61-64WV6416EEBLL.pdf
footprint ISSI-TSOP-2-44_N (SOP, 44-Leads, Body 18.5x10.3mm, Pitch 0.8mm, IPC Medium Density)
part A pins: 3 A0 (in) "Address Input", 4 A1 (in) "Address Input", 5 A2 (in) "Address Input", 6 A3 (in) "Address Input", 7 A4 (in) "Address Input", 8 ~{CE} (in) "Chip Enable Input", 9 I/O0 (io) "Bidirectional Port", 10 I/O1 (io) "Bidirectional Port", 11 VDD (power) "Power", 12 GND (power) "Ground", 13 I/O2 (io) "Bidirectional Port", 14 I/O3 (io) "Bidirectional Port", 15 ~{WE} (in) "Write Enable Input", 16 A5 (in) "Address Input", 17 A6 (in) "Address Input", 18 A7 (in) "Address Input", 19 A8 (in) "Address Input", 20 A9 (in) "Address Input", 26 A10 (in) "Address Input", 27 A11 (in) "Address Input", 28 A12 (in) "Address Input", 29 A13 (in) "Address Input", 30 A14 (in) "Address Input", 31 I/O4 (io) "Bidirectional Port", 32 I/O5 (io) "Bidirectional Port", 33 VDD (power) "Power", 34 GND (power) "Ground", 35 I/O6 (io) "Bidirectional Port", 36 I/O7 (io) "Bidirectional Port", 37 ~{OE} (in) "Output Enable Input", 38 A15 (in) "Address Input", 39 A16 (in) "Address Input", 40 A17 (in) "Address Input", 41 A18 (in) "Address Input"
part B pins: 1 NC "No Connection", 2 NC "No Connection", 21 NC "No Connection", 22 NC "No Connection", 23 NC "No Connection", 24 NC "No Connection", 25 NC "No Connection", 42 NC "No Connection", 43 NC "No Connection", 44 NC "No Connection"

## IS64WV5128BLL-10CTLA3-TR
designator U?
4 M High Speed Asynchronous CMOS SRAM, 512 K x 8, -40 to 125 degC, 44-Pin SOP (TSOP-2-44), Pb-Free; Manufacturer: Integrated Silicon Solution Inc (ISSI); PartNumber: IS64WV5128BLL-10CTLA3-TR; Density: 4M; Organization: 512K x 8; Packing: Tape & Reel; Speed (ns): 10; DatasheetVersion: Rev. I; PackageVersion: Rev. F, 06/2008; PackageReference: TSOP-2-44; PackageDescription: 44-Pin 400 mil TSOP-2, Body 18.41 x 10.16 mm, Pitch 0.8 mm; Supplier 1: Mouser; Supplier Part Number 1: 870-64WV5128B1CTLA3T; RoHS: Pb-Free; Mounting Technology: Surface Mount; ComponentLink1Description: Manufacturer URL; ComponentLink1URL: http://www.issi.com/US/index.shtml; ComponentLink2Description: Datasheet; ComponentLink2URL: http://www.issi.com/WW/pdf/61-64WV5128Axx-Bxx.pdf; ComponentLink3Description: Package Specification; ComponentLink3URL: http://www.issi.com/WW/pdf/61-64WV6416EEBLL.pdf
footprint ISSI-TSOP-2-44_N (SOP, 44-Leads, Body 18.5x10.3mm, Pitch 0.8mm, IPC Medium Density)
part A pins: 3 A0 (in) "Address Input", 4 A1 (in) "Address Input", 5 A2 (in) "Address Input", 6 A3 (in) "Address Input", 7 A4 (in) "Address Input", 8 ~{CE} (in) "Chip Enable Input", 9 I/O0 (io) "Bidirectional Port", 10 I/O1 (io) "Bidirectional Port", 11 VDD (power) "Power", 12 GND (power) "Ground", 13 I/O2 (io) "Bidirectional Port", 14 I/O3 (io) "Bidirectional Port", 15 ~{WE} (in) "Write Enable Input", 16 A5 (in) "Address Input", 17 A6 (in) "Address Input", 18 A7 (in) "Address Input", 19 A8 (in) "Address Input", 20 A9 (in) "Address Input", 26 A10 (in) "Address Input", 27 A11 (in) "Address Input", 28 A12 (in) "Address Input", 29 A13 (in) "Address Input", 30 A14 (in) "Address Input", 31 I/O4 (io) "Bidirectional Port", 32 I/O5 (io) "Bidirectional Port", 33 VDD (power) "Power", 34 GND (power) "Ground", 35 I/O6 (io) "Bidirectional Port", 36 I/O7 (io) "Bidirectional Port", 37 ~{OE} (in) "Output Enable Input", 38 A15 (in) "Address Input", 39 A16 (in) "Address Input", 40 A17 (in) "Address Input", 41 A18 (in) "Address Input"
part B pins: 1 NC "No Connection", 2 NC "No Connection", 21 NC "No Connection", 22 NC "No Connection", 23 NC "No Connection", 24 NC "No Connection", 25 NC "No Connection", 42 NC "No Connection", 43 NC "No Connection", 44 NC "No Connection"

## IS64WV5128EDBLL-10BA1
designator U?
4 M High Speed Asynchronous CMOS SRAM with ECC, 512 K x 8, -40 to 85 degC, 36-Pin BGA (TF-BGA-36); Manufacturer: Integrated Silicon Solution Inc (ISSI); PartNumber: IS64WV5128EDBLL-10BA1; Density: 4M; Organization: 512K x 8; Packing: Tray / Tube; Speed (ns): 10; DatasheetVersion: Rev. F; PackageVersion: Rev. E, 08/2008; PackageReference: TF-BGA-36; PackageDescription: 36-Pin 6 x 8 mm TF-BGA, Pitch 0.75 mm; Mounting Technology: Surface Mount; Code_JEDEC: MO-207; ComponentLink1Description: Manufacturer URL; ComponentLink1URL: http://www.issi.com/US/index.shtml; ComponentLink2Description: Datasheet; ComponentLink2URL: http://www.issi.com/WW/pdf/61-64WV5128EDBLL.pdf; ComponentLink3Description: Package Specification; ComponentLink3URL: http://www.issi.com/WW/pdf/62-65WV2568DALL_BLL.pdf
footprint ISSI-TF-BGA-36-6000x8000DE (BGA, 36-Balls, Body 8x6mm, Pitch 0.75mm)
pins: A1 A0 (in) "Address Input", A2 A1 (in) "Address Input", A3 NC "No Connection", A4 A3 (in) "Address Input", A5 A6 (in) "Address Input", A6 A8 (in) "Address Input", B1 I/O4 (io) "Bidirectional Port", B2 A2 (in) "Address Input", B3 ~{WE} (in) "Write Enable Input", B4 A4 (in) "Address Input", B5 A7 (in) "Address Input", B6 I/O0 (io) "Bidirectional Port", C1 I/O5 (io) "Bidirectional Port", C3 NC "No Connection", C4 A5 (in) "Address Input", C6 I/O1 (io) "Bidirectional Port", D1 GND (power) "Ground", D6 VDD (power) "Power", E1 VDD (power) "Power", E6 GND (power) "Ground", F1 I/O6 (io) "Bidirectional Port", F3 A18 (in) "Address Input", F4 A17 (in) "Address Input", F6 I/O2 (io) "Bidirectional Port", G1 I/O7 (io) "Bidirectional Port", G2 ~{OE} (in) "Output Enable Input", G3 ~{CE} (in) "Chip Enable Input", G4 A16 (in) "Address Input", G5 A15 (in) "Address Input", G6 I/O3 (io) "Bidirectional Port", H1 A9 (in) "Address Input", H2 A10 (in) "Address Input", H3 A11 (in) "Address Input", H4 A12 (in) "Address Input", H5 A13 (in) "Address Input", H6 A14 (in) "Address Input"

## IS64WV5128EDBLL-10BA1-TR
designator U?
4 M High Speed Asynchronous CMOS SRAM with ECC, 512 K x 8, -40 to 85 degC, 36-Pin BGA (TF-BGA-36); Manufacturer: Integrated Silicon Solution Inc (ISSI); PartNumber: IS64WV5128EDBLL-10BA1-TR; Density: 4M; Organization: 512K x 8; Packing: Tape & Reel; Speed (ns): 10; DatasheetVersion: Rev. F; PackageVersion: Rev. E, 08/2008; PackageReference: TF-BGA-36; PackageDescription: 36-Pin 6 x 8 mm TF-BGA, Pitch 0.75 mm; Mounting Technology: Surface Mount; Code_JEDEC: MO-207; ComponentLink1Description: Manufacturer URL; ComponentLink1URL: http://www.issi.com/US/index.shtml; ComponentLink2Description: Datasheet; ComponentLink2URL: http://www.issi.com/WW/pdf/61-64WV5128EDBLL.pdf; ComponentLink3Description: Package Specification; ComponentLink3URL: http://www.issi.com/WW/pdf/62-65WV2568DALL_BLL.pdf
footprint ISSI-TF-BGA-36-6000x8000DE (BGA, 36-Balls, Body 8x6mm, Pitch 0.75mm)
pins: A1 A0 (in) "Address Input", A2 A1 (in) "Address Input", A3 NC "No Connection", A4 A3 (in) "Address Input", A5 A6 (in) "Address Input", A6 A8 (in) "Address Input", B1 I/O4 (io) "Bidirectional Port", B2 A2 (in) "Address Input", B3 ~{WE} (in) "Write Enable Input", B4 A4 (in) "Address Input", B5 A7 (in) "Address Input", B6 I/O0 (io) "Bidirectional Port", C1 I/O5 (io) "Bidirectional Port", C3 NC "No Connection", C4 A5 (in) "Address Input", C6 I/O1 (io) "Bidirectional Port", D1 GND (power) "Ground", D6 VDD (power) "Power", E1 VDD (power) "Power", E6 GND (power) "Ground", F1 I/O6 (io) "Bidirectional Port", F3 A18 (in) "Address Input", F4 A17 (in) "Address Input", F6 I/O2 (io) "Bidirectional Port", G1 I/O7 (io) "Bidirectional Port", G2 ~{OE} (in) "Output Enable Input", G3 ~{CE} (in) "Chip Enable Input", G4 A16 (in) "Address Input", G5 A15 (in) "Address Input", G6 I/O3 (io) "Bidirectional Port", H1 A9 (in) "Address Input", H2 A10 (in) "Address Input", H3 A11 (in) "Address Input", H4 A12 (in) "Address Input", H5 A13 (in) "Address Input", H6 A14 (in) "Address Input"

## IS64WV5128EDBLL-10BA3
designator U?
4 M High Speed Asynchronous CMOS SRAM with ECC, 512 K x 8, -40 to 125 degC, 36-Pin BGA (TF-BGA-36); Manufacturer: Integrated Silicon Solution Inc (ISSI); PartNumber: IS64WV5128EDBLL-10BA3; Density: 4M; Organization: 512K x 8; Packing: Tray / Tube; Speed (ns): 10; DatasheetVersion: Rev. F; PackageVersion: Rev. E, 08/2008; PackageReference: TF-BGA-36; PackageDescription: 36-Pin 6 x 8 mm TF-BGA, Pitch 0.75 mm; Mounting Technology: Surface Mount; Code_JEDEC: MO-207; ComponentLink1Description: Manufacturer URL; ComponentLink1URL: http://www.issi.com/US/index.shtml; ComponentLink2Description: Datasheet; ComponentLink2URL: http://www.issi.com/WW/pdf/61-64WV5128EDBLL.pdf; ComponentLink3Description: Package Specification; ComponentLink3URL: http://www.issi.com/WW/pdf/62-65WV2568DALL_BLL.pdf
footprint ISSI-TF-BGA-36-6000x8000DE (BGA, 36-Balls, Body 8x6mm, Pitch 0.75mm)
pins: A1 A0 (in) "Address Input", A2 A1 (in) "Address Input", A3 NC "No Connection", A4 A3 (in) "Address Input", A5 A6 (in) "Address Input", A6 A8 (in) "Address Input", B1 I/O4 (io) "Bidirectional Port", B2 A2 (in) "Address Input", B3 ~{WE} (in) "Write Enable Input", B4 A4 (in) "Address Input", B5 A7 (in) "Address Input", B6 I/O0 (io) "Bidirectional Port", C1 I/O5 (io) "Bidirectional Port", C3 NC "No Connection", C4 A5 (in) "Address Input", C6 I/O1 (io) "Bidirectional Port", D1 GND (power) "Ground", D6 VDD (power) "Power", E1 VDD (power) "Power", E6 GND (power) "Ground", F1 I/O6 (io) "Bidirectional Port", F3 A18 (in) "Address Input", F4 A17 (in) "Address Input", F6 I/O2 (io) "Bidirectional Port", G1 I/O7 (io) "Bidirectional Port", G2 ~{OE} (in) "Output Enable Input", G3 ~{CE} (in) "Chip Enable Input", G4 A16 (in) "Address Input", G5 A15 (in) "Address Input", G6 I/O3 (io) "Bidirectional Port", H1 A9 (in) "Address Input", H2 A10 (in) "Address Input", H3 A11 (in) "Address Input", H4 A12 (in) "Address Input", H5 A13 (in) "Address Input", H6 A14 (in) "Address Input"

## IS64WV5128EDBLL-10BA3-TR
designator U?
4 M High Speed Asynchronous CMOS SRAM with ECC, 512 K x 8, -40 to 125 degC, 36-Pin BGA (TF-BGA-36); Manufacturer: Integrated Silicon Solution Inc (ISSI); PartNumber: IS64WV5128EDBLL-10BA3-TR; Density: 4M; Organization: 512K x 8; Packing: Tape & Reel; Speed (ns): 10; DatasheetVersion: Rev. F; PackageVersion: Rev. E, 08/2008; PackageReference: TF-BGA-36; PackageDescription: 36-Pin 6 x 8 mm TF-BGA, Pitch 0.75 mm; Mounting Technology: Surface Mount; Code_JEDEC: MO-207; ComponentLink1Description: Manufacturer URL; ComponentLink1URL: http://www.issi.com/US/index.shtml; ComponentLink2Description: Datasheet; ComponentLink2URL: http://www.issi.com/WW/pdf/61-64WV5128EDBLL.pdf; ComponentLink3Description: Package Specification; ComponentLink3URL: http://www.issi.com/WW/pdf/62-65WV2568DALL_BLL.pdf
footprint ISSI-TF-BGA-36-6000x8000DE (BGA, 36-Balls, Body 8x6mm, Pitch 0.75mm)
pins: A1 A0 (in) "Address Input", A2 A1 (in) "Address Input", A3 NC "No Connection", A4 A3 (in) "Address Input", A5 A6 (in) "Address Input", A6 A8 (in) "Address Input", B1 I/O4 (io) "Bidirectional Port", B2 A2 (in) "Address Input", B3 ~{WE} (in) "Write Enable Input", B4 A4 (in) "Address Input", B5 A7 (in) "Address Input", B6 I/O0 (io) "Bidirectional Port", C1 I/O5 (io) "Bidirectional Port", C3 NC "No Connection", C4 A5 (in) "Address Input", C6 I/O1 (io) "Bidirectional Port", D1 GND (power) "Ground", D6 VDD (power) "Power", E1 VDD (power) "Power", E6 GND (power) "Ground", F1 I/O6 (io) "Bidirectional Port", F3 A18 (in) "Address Input", F4 A17 (in) "Address Input", F6 I/O2 (io) "Bidirectional Port", G1 I/O7 (io) "Bidirectional Port", G2 ~{OE} (in) "Output Enable Input", G3 ~{CE} (in) "Chip Enable Input", G4 A16 (in) "Address Input", G5 A15 (in) "Address Input", G6 I/O3 (io) "Bidirectional Port", H1 A9 (in) "Address Input", H2 A10 (in) "Address Input", H3 A11 (in) "Address Input", H4 A12 (in) "Address Input", H5 A13 (in) "Address Input", H6 A14 (in) "Address Input"

## IS64WV5128EDBLL-10BLA1
designator U?
4 M High Speed Asynchronous CMOS SRAM with ECC, 512 K x 8, -40 to 85 degC, 36-Pin BGA (TF-BGA-36), Pb-Free; Manufacturer: Integrated Silicon Solution Inc (ISSI); PartNumber: IS64WV5128EDBLL-10BLA1; Density: 4M; Organization: 512K x 8; Packing: Tray / Tube; Speed (ns): 10; DatasheetVersion: Rev. F; PackageVersion: Rev. E, 08/2008; PackageReference: TF-BGA-36; PackageDescription: 36-Pin 6 x 8 mm TF-BGA, Pitch 0.75 mm; RoHS: Pb-Free; Mounting Technology: Surface Mount; Code_JEDEC: MO-207; ComponentLink1Description: Manufacturer URL; ComponentLink1URL: http://www.issi.com/US/index.shtml; ComponentLink2Description: Datasheet; ComponentLink2URL: http://www.issi.com/WW/pdf/61-64WV5128EDBLL.pdf; ComponentLink3Description: Package Specification; ComponentLink3URL: http://www.issi.com/WW/pdf/62-65WV2568DALL_BLL.pdf
footprint ISSI-TF-BGA-36-6000x8000DE (BGA, 36-Balls, Body 8x6mm, Pitch 0.75mm)
pins: A1 A0 (in) "Address Input", A2 A1 (in) "Address Input", A3 NC "No Connection", A4 A3 (in) "Address Input", A5 A6 (in) "Address Input", A6 A8 (in) "Address Input", B1 I/O4 (io) "Bidirectional Port", B2 A2 (in) "Address Input", B3 ~{WE} (in) "Write Enable Input", B4 A4 (in) "Address Input", B5 A7 (in) "Address Input", B6 I/O0 (io) "Bidirectional Port", C1 I/O5 (io) "Bidirectional Port", C3 NC "No Connection", C4 A5 (in) "Address Input", C6 I/O1 (io) "Bidirectional Port", D1 GND (power) "Ground", D6 VDD (power) "Power", E1 VDD (power) "Power", E6 GND (power) "Ground", F1 I/O6 (io) "Bidirectional Port", F3 A18 (in) "Address Input", F4 A17 (in) "Address Input", F6 I/O2 (io) "Bidirectional Port", G1 I/O7 (io) "Bidirectional Port", G2 ~{OE} (in) "Output Enable Input", G3 ~{CE} (in) "Chip Enable Input", G4 A16 (in) "Address Input", G5 A15 (in) "Address Input", G6 I/O3 (io) "Bidirectional Port", H1 A9 (in) "Address Input", H2 A10 (in) "Address Input", H3 A11 (in) "Address Input", H4 A12 (in) "Address Input", H5 A13 (in) "Address Input", H6 A14 (in) "Address Input"

## IS64WV5128EDBLL-10BLA1-TR
designator U?
4 M High Speed Asynchronous CMOS SRAM with ECC, 512 K x 8, -40 to 85 degC, 36-Pin BGA (TF-BGA-36), Pb-Free; Manufacturer: Integrated Silicon Solution Inc (ISSI); PartNumber: IS64WV5128EDBLL-10BLA1-TR; Density: 4M; Organization: 512K x 8; Packing: Tape & Reel; Speed (ns): 10; DatasheetVersion: Rev. F; PackageVersion: Rev. E, 08/2008; PackageReference: TF-BGA-36; PackageDescription: 36-Pin 6 x 8 mm TF-BGA, Pitch 0.75 mm; RoHS: Pb-Free; Mounting Technology: Surface Mount; Code_JEDEC: MO-207; ComponentLink1Description: Manufacturer URL; ComponentLink1URL: http://www.issi.com/US/index.shtml; ComponentLink2Description: Datasheet; ComponentLink2URL: http://www.issi.com/WW/pdf/61-64WV5128EDBLL.pdf; ComponentLink3Description: Package Specification; ComponentLink3URL: http://www.issi.com/WW/pdf/62-65WV2568DALL_BLL.pdf
footprint ISSI-TF-BGA-36-6000x8000DE (BGA, 36-Balls, Body 8x6mm, Pitch 0.75mm)
pins: A1 A0 (in) "Address Input", A2 A1 (in) "Address Input", A3 NC "No Connection", A4 A3 (in) "Address Input", A5 A6 (in) "Address Input", A6 A8 (in) "Address Input", B1 I/O4 (io) "Bidirectional Port", B2 A2 (in) "Address Input", B3 ~{WE} (in) "Write Enable Input", B4 A4 (in) "Address Input", B5 A7 (in) "Address Input", B6 I/O0 (io) "Bidirectional Port", C1 I/O5 (io) "Bidirectional Port", C3 NC "No Connection", C4 A5 (in) "Address Input", C6 I/O1 (io) "Bidirectional Port", D1 GND (power) "Ground", D6 VDD (power) "Power", E1 VDD (power) "Power", E6 GND (power) "Ground", F1 I/O6 (io) "Bidirectional Port", F3 A18 (in) "Address Input", F4 A17 (in) "Address Input", F6 I/O2 (io) "Bidirectional Port", G1 I/O7 (io) "Bidirectional Port", G2 ~{OE} (in) "Output Enable Input", G3 ~{CE} (in) "Chip Enable Input", G4 A16 (in) "Address Input", G5 A15 (in) "Address Input", G6 I/O3 (io) "Bidirectional Port", H1 A9 (in) "Address Input", H2 A10 (in) "Address Input", H3 A11 (in) "Address Input", H4 A12 (in) "Address Input", H5 A13 (in) "Address Input", H6 A14 (in) "Address Input"

## IS64WV5128EDBLL-10BLA3
designator U?
4 M High Speed Asynchronous CMOS SRAM with ECC, 512 K x 8, -40 to 125 degC, 36-Pin BGA (TF-BGA-36), Pb-Free; Manufacturer: Integrated Silicon Solution Inc (ISSI); PartNumber: IS64WV5128EDBLL-10BLA3; Density: 4M; Organization: 512K x 8; Packing: Tray / Tube; Speed (ns): 10; DatasheetVersion: Rev. F; PackageVersion: Rev. E, 08/2008; PackageReference: TF-BGA-36; PackageDescription: 36-Pin 6 x 8 mm TF-BGA, Pitch 0.75 mm; RoHS: Pb-Free; Mounting Technology: Surface Mount; Code_JEDEC: MO-207; ComponentLink1Description: Manufacturer URL; ComponentLink1URL: http://www.issi.com/US/index.shtml; ComponentLink2Description: Datasheet; ComponentLink2URL: http://www.issi.com/WW/pdf/61-64WV5128EDBLL.pdf; ComponentLink3Description: Package Specification; ComponentLink3URL: http://www.issi.com/WW/pdf/62-65WV2568DALL_BLL.pdf
footprint ISSI-TF-BGA-36-6000x8000DE (BGA, 36-Balls, Body 8x6mm, Pitch 0.75mm)
pins: A1 A0 (in) "Address Input", A2 A1 (in) "Address Input", A3 NC "No Connection", A4 A3 (in) "Address Input", A5 A6 (in) "Address Input", A6 A8 (in) "Address Input", B1 I/O4 (io) "Bidirectional Port", B2 A2 (in) "Address Input", B3 ~{WE} (in) "Write Enable Input", B4 A4 (in) "Address Input", B5 A7 (in) "Address Input", B6 I/O0 (io) "Bidirectional Port", C1 I/O5 (io) "Bidirectional Port", C3 NC "No Connection", C4 A5 (in) "Address Input", C6 I/O1 (io) "Bidirectional Port", D1 GND (power) "Ground", D6 VDD (power) "Power", E1 VDD (power) "Power", E6 GND (power) "Ground", F1 I/O6 (io) "Bidirectional Port", F3 A18 (in) "Address Input", F4 A17 (in) "Address Input", F6 I/O2 (io) "Bidirectional Port", G1 I/O7 (io) "Bidirectional Port", G2 ~{OE} (in) "Output Enable Input", G3 ~{CE} (in) "Chip Enable Input", G4 A16 (in) "Address Input", G5 A15 (in) "Address Input", G6 I/O3 (io) "Bidirectional Port", H1 A9 (in) "Address Input", H2 A10 (in) "Address Input", H3 A11 (in) "Address Input", H4 A12 (in) "Address Input", H5 A13 (in) "Address Input", H6 A14 (in) "Address Input"

## IS64WV5128EDBLL-10BLA3-TR
designator U?
4 M High Speed Asynchronous CMOS SRAM with ECC, 512 K x 8, -40 to 125 degC, 36-Pin BGA (TF-BGA-36), Pb-Free; Manufacturer: Integrated Silicon Solution Inc (ISSI); PartNumber: IS64WV5128EDBLL-10BLA3-TR; Density: 4M; Organization: 512K x 8; Packing: Tape & Reel; Speed (ns): 10; DatasheetVersion: Rev. F; PackageVersion: Rev. E, 08/2008; PackageReference: TF-BGA-36; PackageDescription: 36-Pin 6 x 8 mm TF-BGA, Pitch 0.75 mm; RoHS: Pb-Free; Mounting Technology: Surface Mount; Code_JEDEC: MO-207; ComponentLink1Description: Manufacturer URL; ComponentLink1URL: http://www.issi.com/US/index.shtml; ComponentLink2Description: Datasheet; ComponentLink2URL: http://www.issi.com/WW/pdf/61-64WV5128EDBLL.pdf; ComponentLink3Description: Package Specification; ComponentLink3URL: http://www.issi.com/WW/pdf/62-65WV2568DALL_BLL.pdf
footprint ISSI-TF-BGA-36-6000x8000DE (BGA, 36-Balls, Body 8x6mm, Pitch 0.75mm)
pins: A1 A0 (in) "Address Input", A2 A1 (in) "Address Input", A3 NC "No Connection", A4 A3 (in) "Address Input", A5 A6 (in) "Address Input", A6 A8 (in) "Address Input", B1 I/O4 (io) "Bidirectional Port", B2 A2 (in) "Address Input", B3 ~{WE} (in) "Write Enable Input", B4 A4 (in) "Address Input", B5 A7 (in) "Address Input", B6 I/O0 (io) "Bidirectional Port", C1 I/O5 (io) "Bidirectional Port", C3 NC "No Connection", C4 A5 (in) "Address Input", C6 I/O1 (io) "Bidirectional Port", D1 GND (power) "Ground", D6 VDD (power) "Power", E1 VDD (power) "Power", E6 GND (power) "Ground", F1 I/O6 (io) "Bidirectional Port", F3 A18 (in) "Address Input", F4 A17 (in) "Address Input", F6 I/O2 (io) "Bidirectional Port", G1 I/O7 (io) "Bidirectional Port", G2 ~{OE} (in) "Output Enable Input", G3 ~{CE} (in) "Chip Enable Input", G4 A16 (in) "Address Input", G5 A15 (in) "Address Input", G6 I/O3 (io) "Bidirectional Port", H1 A9 (in) "Address Input", H2 A10 (in) "Address Input", H3 A11 (in) "Address Input", H4 A12 (in) "Address Input", H5 A13 (in) "Address Input", H6 A14 (in) "Address Input"